# EAGLE library part TCA6416APW (library alvie)
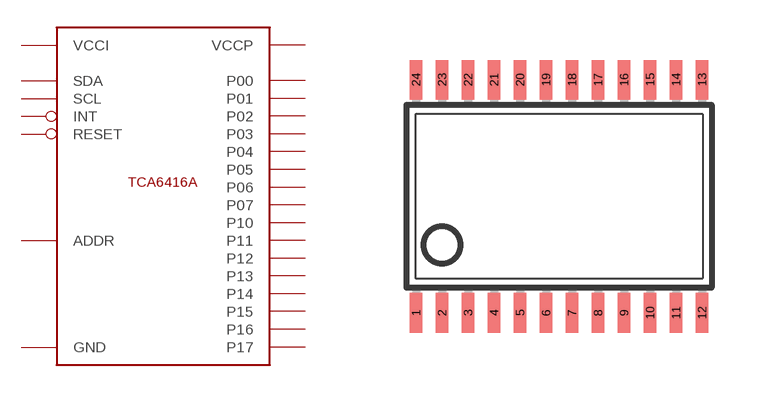
[diagram p3: symbol with the pads of TSSOP24; footprint TSSOP24]

Designator prefix -

## TCA6416APW  [TSSOP24]
1  INT  out
2  VCCI  pwr
3  RESET  in
4  P00  pwr
5  P01  pwr
6  P02  pwr
7  P03  pwr
8  P04  pwr
9  P05  pwr
10  P06  pwr
11  P07  pwr
12  GND  pwr
13  P10  pwr
14  P11  pwr
15  P12  pwr
16  P13  pwr
17  P14  pwr
18  P15  pwr
19  P16  pwr
20  P17  pwr
21  ADDR  in
22  SCL  in
23  SDA
24  VCCP  pwr

## Footprint TSSOP24 (pad centres in mm)
smd 0.305 x 0.991: 1 -3.575,-2.918; 2 -2.925,-2.918; 3 -2.275,-2.918; 4 -1.625,-2.918; 5 -0.975,-2.918; 6 -0.325,-2.918; 7 0.325,-2.918; 8 0.975,-2.918; 9 1.625,-2.918; 10 2.275,-2.918; 11 2.925,-2.918; 12 3.575,-2.918; 13 3.575,2.918; 14 2.925,2.918; 15 2.275,2.918; 16 1.625,2.918; 17 0.975,2.918; 18 0.325,2.918; 19 -0.325,2.918; 20 -0.975,2.918; 21 -1.625,2.918; 22 -2.275,2.918; 23 -2.925,2.918; 24 -3.575,2.918